# Altium footprint library TerminalBlock_4Ucon.PcbLib: 28 footprints (part 1 of 2)
Each footprint in its own frame and in the unit in brackets; x right, y up, seen from the top. Pads: shape width x height; smd on the part's side, far side on the other; paste and mask are expansions set on the pad; w line width, h text height; cw(c..) or ccw(c..) is an arc to the next point about the centre after c.
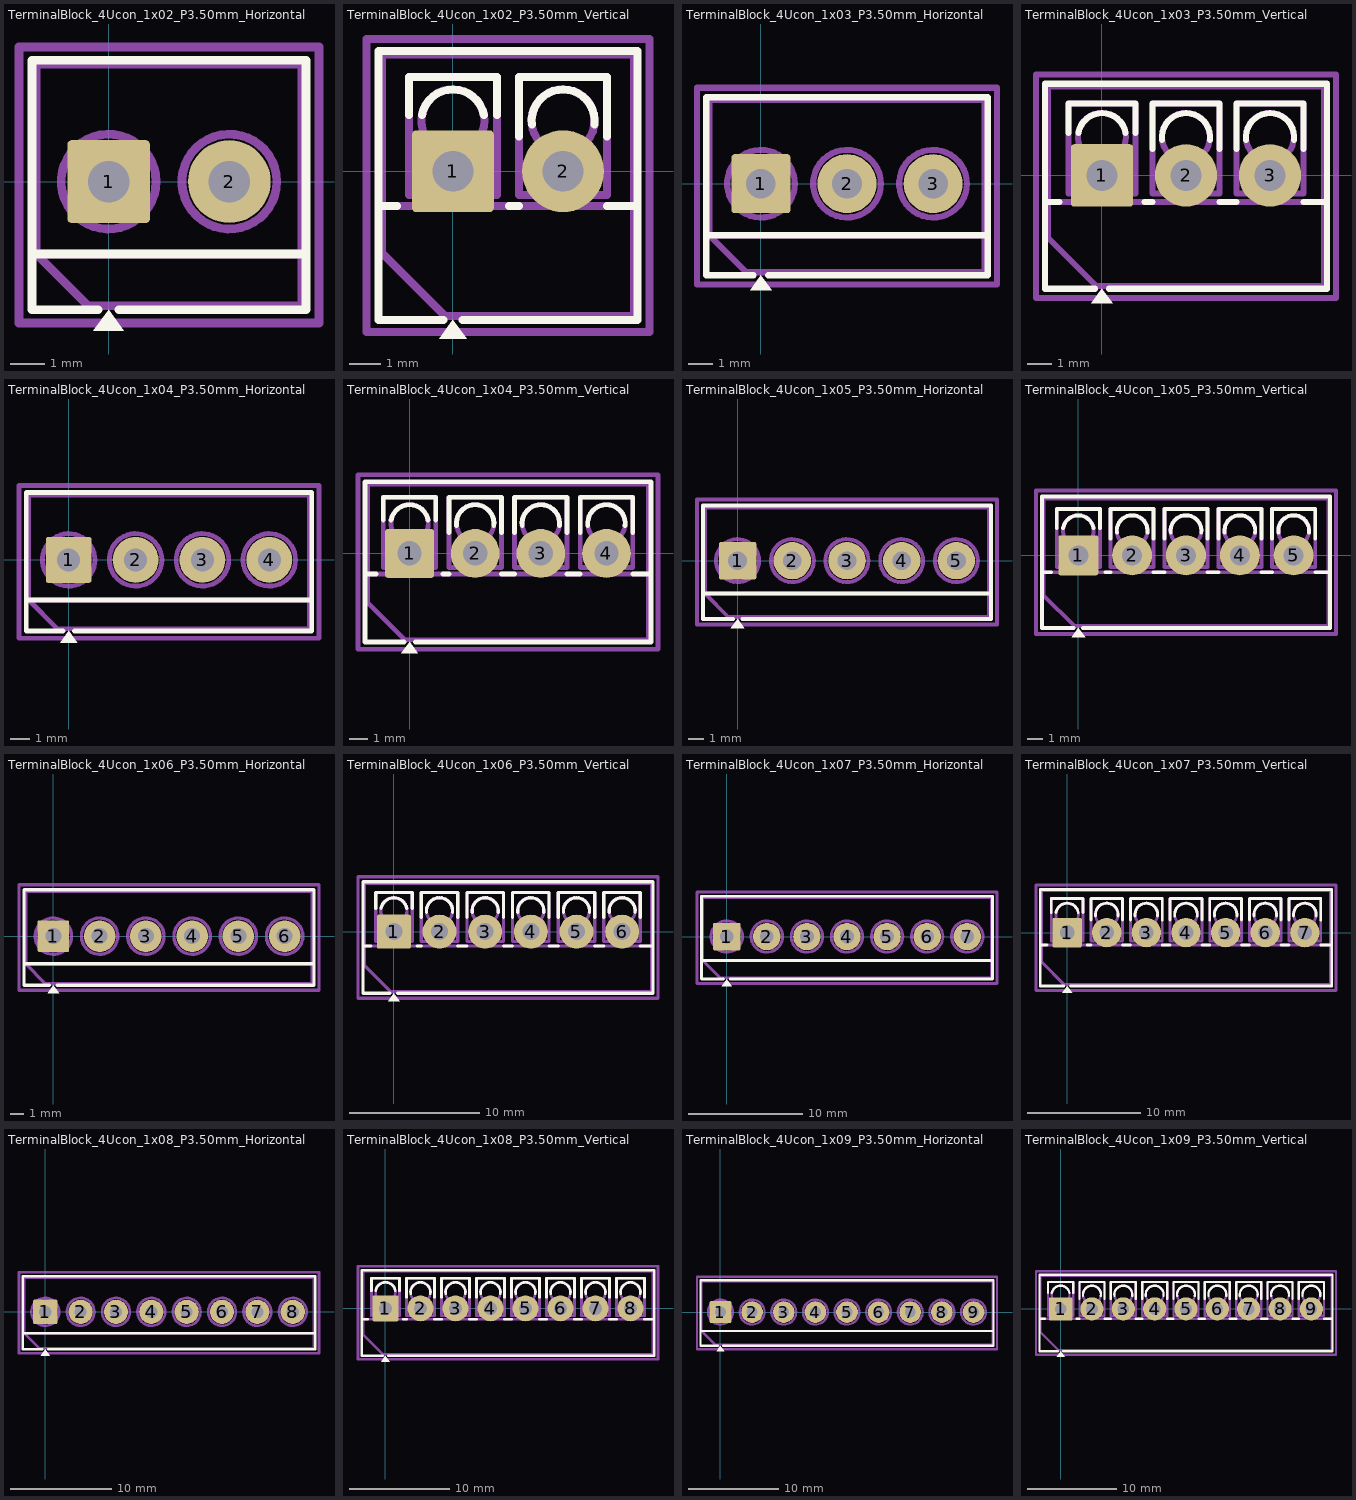
[diagram p0: the footprints below, top view; thin cyan lines are the x and y axes]

## TerminalBlock_4Ucon_1x02_P3.50mm_Horizontal [mm]
pads (2):
  rrect10% 2.4x2.4 hole 1.2: 1(0,0)
  round 2.4 hole 1.2: 2(3.5,0)
F.SilkS:
  region: 0.44,-4.33 -0.44,-4.33 0,-3.72
  lines w0.254: -2.22,-2.1 5.72,-2.1 ; -0.3,-3.72 -2.22,-3.72 -2.22,3.52 5.72,3.52 5.72,-3.72 0.3,-3.72
F.Fab:
  circle w0.254: c0,0 r1.375
  circle w0.254: c3.5,0 r1.375
  lines w0.254: -1.031,0 1.031,0 ; 0,-1.031 0,1.031 ; 2.469,0 4.531,0 ; 3.5,-1.031 3.5,1.031 ; 5.6,-2.1 -2.1,-2.1 ; -2.1,-2.1 -2.1,3.4 5.6,3.4 5.6,-3.6 -0.6,-3.6 -2.1,-2.1
  text "'.Designator'" at -2.297,-3.74 h1
F.CrtYd:
  lines w0.254: -2.6,-4.1 -2.6,3.9 6.1,3.9 6.1,-4.1 -2.6,-4.1

## TerminalBlock_4Ucon_1x02_P3.50mm_Vertical [mm]
pads (2):
  rrect10% 2.6x2.6 hole 1.3: 1(0,0)
  round 2.6 hole 1.3: 2(3.5,0)
F.SilkS:
  region: 0.44,-5.33 -0.44,-5.33 0,-4.72
  lines w0.254: -2.37,-1.1 -1.78,-1.1 ; -1.4,1.78 -1.4,3 1.4,3 1.4,1.78 ; -0.984,1.78 cw(c0,1.6) 0.984,1.78 ; -0.3,-4.72 -2.37,-4.72 -2.37,3.82 5.87,3.82 5.87,-4.72 0.3,-4.72 ; 1.78,-1.1 2.101,-1.1 ; 2.1,1.099 2.1,3 4.9,3 4.9,1.099 ; 2.508,1.478 cw(c3.5,1.6) 4.492,1.478 ; 4.899,-1.1 5.87,-1.1
F.Fab:
  circle w0.254: c0,1.6 r1
  circle w0.254: c3.5,1.6 r1
  lines w0.254: -2.25,-1.1 5.75,-1.1 ; -2.25,-2.6 -2.25,3.7 5.75,3.7 5.75,-4.6 -0.25,-4.6 -2.25,-2.6 ; -1.4,-0.75 -1.4,3 1.4,3 1.4,-0.75 -1.4,-0.75 ; 2.1,-0.75 2.1,3 4.9,3 4.9,-0.75 2.1,-0.75
  text "'.Designator'" at -2.297,-4.29 h1
F.CrtYd:
  lines w0.254: -2.75,-5.11 -2.75,4.2 6.25,4.2 6.25,-5.11 -2.75,-5.11

## TerminalBlock_4Ucon_1x03_P3.50mm_Horizontal [mm]
pads (3):
  rrect10% 2.4x2.4 hole 1.2: 1(0,0)
  round 2.4 hole 1.2: 2(3.5,0) 3(7,0)
F.SilkS:
  region: 0.44,-4.33 -0.44,-4.33 0,-3.72
  lines w0.254: -2.22,-2.1 9.22,-2.1 ; -0.3,-3.72 -2.22,-3.72 -2.22,3.52 9.22,3.52 9.22,-3.72 0.3,-3.72
F.Fab:
  circle w0.254: c0,0 r1.375
  circle w0.254: c3.5,0 r1.375
  circle w0.254: c7,0 r1.375
  lines w0.254: -1.031,0 1.031,0 ; 0,-1.031 0,1.031 ; 2.469,0 4.531,0 ; 3.5,-1.031 3.5,1.031 ; 5.969,0 8.031,0 ; 7,-1.031 7,1.031 ; 9.1,-2.1 -2.1,-2.1 ; -2.1,-2.1 -2.1,3.4 9.1,3.4 9.1,-3.6 -0.6,-3.6 -2.1,-2.1
  text "'.Designator'" at -0.547,-3.74 h1
F.CrtYd:
  lines w0.254: -2.6,-4.1 -2.6,3.9 9.6,3.9 9.6,-4.1 -2.6,-4.1

## TerminalBlock_4Ucon_1x03_P3.50mm_Vertical [mm]
pads (3):
  rrect10% 2.6x2.6 hole 1.3: 1(0,0)
  round 2.6 hole 1.3: 2(3.5,0) 3(7,0)
F.SilkS:
  region: 0.44,-5.33 -0.44,-5.33 0,-4.72
  lines w0.254: -2.37,-1.1 -1.78,-1.1 ; -1.4,1.78 -1.4,3 1.4,3 1.4,1.78 ; -0.984,1.78 cw(c0,1.6) 0.984,1.78 ; -0.3,-4.72 -2.37,-4.72 -2.37,3.82 9.37,3.82 9.37,-4.72 0.3,-4.72 ; 1.78,-1.1 2.101,-1.1 ; 2.1,1.099 2.1,3 4.9,3 4.9,1.099 ; 2.508,1.478 cw(c3.5,1.6) 4.492,1.478 ; 4.899,-1.1 5.601,-1.1 ; 5.6,1.099 5.6,3 8.4,3 8.4,1.099 ; 6.008,1.478 cw(c7,1.6) 7.992,1.478 ; 8.399,-1.1 9.37,-1.1
F.Fab:
  circle w0.254: c0,1.6 r1
  circle w0.254: c3.5,1.6 r1
  circle w0.254: c7,1.6 r1
  lines w0.254: -2.25,-1.1 9.25,-1.1 ; -2.25,-2.6 -2.25,3.7 9.25,3.7 9.25,-4.6 -0.25,-4.6 -2.25,-2.6 ; -1.4,-0.75 -1.4,3 1.4,3 1.4,-0.75 -1.4,-0.75 ; 2.1,-0.75 2.1,3 4.9,3 4.9,-0.75 2.1,-0.75 ; 5.6,-0.75 5.6,3 8.4,3 8.4,-0.75 5.6,-0.75
  text "'.Designator'" at -0.547,-4.29 h1
F.CrtYd:
  lines w0.254: -2.75,-5.11 -2.75,4.2 9.75,4.2 9.75,-5.11 -2.75,-5.11

## TerminalBlock_4Ucon_1x04_P3.50mm_Horizontal [mm]
pads (4):
  rrect10% 2.4x2.4 hole 1.2: 1(0,0)
  round 2.4 hole 1.2: 2(3.5,0) 3(7,0) 4(10.5,0)
F.SilkS:
  region: 0.44,-4.33 -0.44,-4.33 0,-3.72
  lines w0.254: -2.22,-2.1 12.72,-2.1 ; -0.3,-3.72 -2.22,-3.72 -2.22,3.52 12.72,3.52 12.72,-3.72 0.3,-3.72
F.Fab:
  circle w0.254: c0,0 r1.375
  circle w0.254: c3.5,0 r1.375
  circle w0.254: c7,0 r1.375
  circle w0.254: c10.5,0 r1.375
  lines w0.254: -1.031,0 1.031,0 ; 0,-1.031 0,1.031 ; 2.469,0 4.531,0 ; 3.5,-1.031 3.5,1.031 ; 5.969,0 8.031,0 ; 7,-1.031 7,1.031 ; 9.469,0 11.531,0 ; 10.5,-1.031 10.5,1.031 ; 12.6,-2.1 -2.1,-2.1 ; -2.1,-2.1 -2.1,3.4 12.6,3.4 12.6,-3.6 -0.6,-3.6 -2.1,-2.1
  text "'.Designator'" at 1.203,-3.74 h1
F.CrtYd:
  lines w0.254: -2.6,-4.1 -2.6,3.9 13.1,3.9 13.1,-4.1 -2.6,-4.1

## TerminalBlock_4Ucon_1x04_P3.50mm_Vertical [mm]
pads (4):
  rrect10% 2.6x2.6 hole 1.3: 1(0,0)
  round 2.6 hole 1.3: 2(3.5,0) 3(7,0) 4(10.5,0)
F.SilkS:
  region: 0.44,-5.33 -0.44,-5.33 0,-4.72
  lines w0.254: -2.37,-1.1 -1.78,-1.1 ; -1.4,1.78 -1.4,3 1.4,3 1.4,1.78 ; -0.984,1.78 cw(c0,1.6) 0.984,1.78 ; -0.3,-4.72 -2.37,-4.72 -2.37,3.82 12.87,3.82 12.87,-4.72 0.3,-4.72 ; 1.78,-1.1 2.101,-1.1 ; 2.1,1.099 2.1,3 4.9,3 4.9,1.099 ; 2.508,1.478 cw(c3.5,1.6) 4.492,1.478 ; 4.899,-1.1 5.601,-1.1 ; 5.6,1.099 5.6,3 8.4,3 8.4,1.099 ; 6.008,1.478 cw(c7,1.6) 7.992,1.478 ; 8.399,-1.1 9.101,-1.1 ; 9.1,1.099 9.1,3 11.9,3 11.9,1.099 ; 9.508,1.478 cw(c10.5,1.6) 11.492,1.478 ; 11.899,-1.1 12.87,-1.1
F.Fab:
  circle w0.254: c0,1.6 r1
  circle w0.254: c3.5,1.6 r1
  circle w0.254: c7,1.6 r1
  circle w0.254: c10.5,1.6 r1
  lines w0.254: -2.25,-1.1 12.75,-1.1 ; -2.25,-2.6 -2.25,3.7 12.75,3.7 12.75,-4.6 -0.25,-4.6 -2.25,-2.6 ; -1.4,-0.75 -1.4,3 1.4,3 1.4,-0.75 -1.4,-0.75 ; 2.1,-0.75 2.1,3 4.9,3 4.9,-0.75 2.1,-0.75 ; 5.6,-0.75 5.6,3 8.4,3 8.4,-0.75 5.6,-0.75 ; 9.1,-0.75 9.1,3 11.9,3 11.9,-0.75 9.1,-0.75
  text "'.Designator'" at 1.203,-4.29 h1
F.CrtYd:
  lines w0.254: -2.75,-5.11 -2.75,4.2 13.25,4.2 13.25,-5.11 -2.75,-5.11

## TerminalBlock_4Ucon_1x05_P3.50mm_Horizontal [mm]
pads (5):
  rrect10% 2.4x2.4 hole 1.2: 1(0,0)
  round 2.4 hole 1.2: 2(3.5,0) 3(7,0) 4(10.5,0) 5(14,0)
F.SilkS:
  region: 0.44,-4.33 -0.44,-4.33 0,-3.72
  lines w0.254: -2.22,-2.1 16.22,-2.1 ; -0.3,-3.72 -2.22,-3.72 -2.22,3.52 16.22,3.52 16.22,-3.72 0.3,-3.72
F.Fab:
  circle w0.254: c0,0 r1.375
  circle w0.254: c3.5,0 r1.375
  circle w0.254: c7,0 r1.375
  circle w0.254: c10.5,0 r1.375
  circle w0.254: c14,0 r1.375
  lines w0.254: -1.031,0 1.031,0 ; 0,-1.031 0,1.031 ; 2.469,0 4.531,0 ; 3.5,-1.031 3.5,1.031 ; 5.969,0 8.031,0 ; 7,-1.031 7,1.031 ; 9.469,0 11.531,0 ; 10.5,-1.031 10.5,1.031 ; 12.969,0 15.031,0 ; 14,-1.031 14,1.031 ; 16.1,-2.1 -2.1,-2.1 ; -2.1,-2.1 -2.1,3.4 16.1,3.4 16.1,-3.6 -0.6,-3.6 -2.1,-2.1
  text "'.Designator'" at 2.953,-3.74 h1
F.CrtYd:
  lines w0.254: -2.6,-4.1 -2.6,3.9 16.6,3.9 16.6,-4.1 -2.6,-4.1

## TerminalBlock_4Ucon_1x05_P3.50mm_Vertical [mm]
pads (5):
  rrect10% 2.6x2.6 hole 1.3: 1(0,0)
  round 2.6 hole 1.3: 2(3.5,0) 3(7,0) 4(10.5,0) 5(14,0)
F.SilkS:
  region: 0.44,-5.33 -0.44,-5.33 0,-4.72
  lines w0.254: -2.37,-1.1 -1.78,-1.1 ; -1.4,1.78 -1.4,3 1.4,3 1.4,1.78 ; -0.984,1.78 cw(c0,1.6) 0.984,1.78 ; -0.3,-4.72 -2.37,-4.72 -2.37,3.82 16.37,3.82 16.37,-4.72 0.3,-4.72 ; 1.78,-1.1 2.101,-1.1 ; 2.1,1.099 2.1,3 4.9,3 4.9,1.099 ; 2.508,1.478 cw(c3.5,1.6) 4.492,1.478 ; 4.899,-1.1 5.601,-1.1 ; 5.6,1.099 5.6,3 8.4,3 8.4,1.099 ; 6.008,1.478 cw(c7,1.6) 7.992,1.478 ; 8.399,-1.1 9.101,-1.1 ; 9.1,1.099 9.1,3 11.9,3 11.9,1.099 ; 9.508,1.478 cw(c10.5,1.6) 11.492,1.478 ; 11.899,-1.1 12.601,-1.1 ; 12.6,1.099 12.6,3 15.4,3 15.4,1.099 ; 13.008,1.478 cw(c14,1.6) 14.992,1.478 ; 15.399,-1.1 16.37,-1.1
F.Fab:
  circle w0.254: c0,1.6 r1
  circle w0.254: c3.5,1.6 r1
  circle w0.254: c7,1.6 r1
  circle w0.254: c10.5,1.6 r1
  circle w0.254: c14,1.6 r1
  lines w0.254: -2.25,-1.1 16.25,-1.1 ; -2.25,-2.6 -2.25,3.7 16.25,3.7 16.25,-4.6 -0.25,-4.6 -2.25,-2.6 ; -1.4,-0.75 -1.4,3 1.4,3 1.4,-0.75 -1.4,-0.75 ; 2.1,-0.75 2.1,3 4.9,3 4.9,-0.75 2.1,-0.75 ; 5.6,-0.75 5.6,3 8.4,3 8.4,-0.75 5.6,-0.75 ; 9.1,-0.75 9.1,3 11.9,3 11.9,-0.75 9.1,-0.75 ; 12.6,-0.75 12.6,3 15.4,3 15.4,-0.75 12.6,-0.75
  text "'.Designator'" at 2.953,-4.29 h1
F.CrtYd:
  lines w0.254: -2.75,-5.11 -2.75,4.2 16.75,4.2 16.75,-5.11 -2.75,-5.11

## TerminalBlock_4Ucon_1x06_P3.50mm_Horizontal [mm]
pads (6):
  rrect10% 2.4x2.4 hole 1.2: 1(0,0)
  round 2.4 hole 1.2: 2(3.5,0) 3(7,0) 4(10.5,0) 5(14,0) 6(17.5,0)
F.SilkS:
  region: 0.44,-4.33 -0.44,-4.33 0,-3.72
  lines w0.254: -2.22,-2.1 19.72,-2.1 ; -0.3,-3.72 -2.22,-3.72 -2.22,3.52 19.72,3.52 19.72,-3.72 0.3,-3.72
F.Fab:
  circle w0.254: c0,0 r1.375
  circle w0.254: c3.5,0 r1.375
  circle w0.254: c7,0 r1.375
  circle w0.254: c10.5,0 r1.375
  circle w0.254: c14,0 r1.375
  circle w0.254: c17.5,0 r1.375
  lines w0.254: -1.031,0 1.031,0 ; 0,-1.031 0,1.031 ; 2.469,0 4.531,0 ; 3.5,-1.031 3.5,1.031 ; 5.969,0 8.031,0 ; 7,-1.031 7,1.031 ; 9.469,0 11.531,0 ; 10.5,-1.031 10.5,1.031 ; 12.969,0 15.031,0 ; 14,-1.031 14,1.031 ; 16.469,0 18.531,0 ; 17.5,-1.031 17.5,1.031 ; 19.6,-2.1 -2.1,-2.1 ; -2.1,-2.1 -2.1,3.4 19.6,3.4 19.6,-3.6 -0.6,-3.6 -2.1,-2.1
  text "'.Designator'" at 4.703,-3.74 h1
F.CrtYd:
  lines w0.254: -2.6,-4.1 -2.6,3.9 20.1,3.9 20.1,-4.1 -2.6,-4.1

## TerminalBlock_4Ucon_1x06_P3.50mm_Vertical [mm]
pads (6):
  rrect10% 2.6x2.6 hole 1.3: 1(0,0)
  round 2.6 hole 1.3: 2(3.5,0) 3(7,0) 4(10.5,0) 5(14,0) 6(17.5,0)
F.SilkS:
  region: 0.44,-5.33 -0.44,-5.33 0,-4.72
  lines w0.254: -2.37,-1.1 -1.78,-1.1 ; -1.4,1.78 -1.4,3 1.4,3 1.4,1.78 ; -0.984,1.78 cw(c0,1.6) 0.984,1.78 ; -0.3,-4.72 -2.37,-4.72 -2.37,3.82 19.87,3.82 19.87,-4.72 0.3,-4.72 ; 1.78,-1.1 2.101,-1.1 ; 2.1,1.099 2.1,3 4.9,3 4.9,1.099 ; 2.508,1.478 cw(c3.5,1.6) 4.492,1.478 ; 4.899,-1.1 5.601,-1.1 ; 5.6,1.099 5.6,3 8.4,3 8.4,1.099 ; 6.008,1.478 cw(c7,1.6) 7.992,1.478 ; 8.399,-1.1 9.101,-1.1 ; 9.1,1.099 9.1,3 11.9,3 11.9,1.099 ; 9.508,1.478 cw(c10.5,1.6) 11.492,1.478 ; 11.899,-1.1 12.601,-1.1 ; 12.6,1.099 12.6,3 15.4,3 15.4,1.099 ; 13.008,1.478 cw(c14,1.6) 14.992,1.478 ; 15.399,-1.1 16.101,-1.1 ; 16.1,1.099 16.1,3 18.9,3 18.9,1.099 ; 16.508,1.478 cw(c17.5,1.6) 18.492,1.478 ; 18.899,-1.1 19.87,-1.1
F.Fab:
  circle w0.254: c0,1.6 r1
  circle w0.254: c3.5,1.6 r1
  circle w0.254: c7,1.6 r1
  circle w0.254: c10.5,1.6 r1
  circle w0.254: c14,1.6 r1
  circle w0.254: c17.5,1.6 r1
  lines w0.254: -2.25,-1.1 19.75,-1.1 ; -2.25,-2.6 -2.25,3.7 19.75,3.7 19.75,-4.6 -0.25,-4.6 -2.25,-2.6 ; -1.4,-0.75 -1.4,3 1.4,3 1.4,-0.75 -1.4,-0.75 ; 2.1,-0.75 2.1,3 4.9,3 4.9,-0.75 2.1,-0.75 ; 5.6,-0.75 5.6,3 8.4,3 8.4,-0.75 5.6,-0.75 ; 9.1,-0.75 9.1,3 11.9,3 11.9,-0.75 9.1,-0.75 ; 12.6,-0.75 12.6,3 15.4,3 15.4,-0.75 12.6,-0.75 ; 16.101,-0.75 16.101,3 18.9,3 18.9,-0.75 16.101,-0.75
  text "'.Designator'" at 4.703,-4.29 h1
F.CrtYd:
  lines w0.254: -2.75,-5.11 -2.75,4.2 20.25,4.2 20.25,-5.11 -2.75,-5.11

## TerminalBlock_4Ucon_1x07_P3.50mm_Horizontal [mm]
pads (7):
  rrect10% 2.4x2.4 hole 1.2: 1(0,0)
  round 2.4 hole 1.2: 2(3.5,0) 3(7,0) 4(10.5,0) 5(14,0) 6(17.5,0) 7(21,0)
F.SilkS:
  region: 0.44,-4.33 -0.44,-4.33 0,-3.72
  lines w0.254: -2.22,-2.1 23.22,-2.1 ; -0.3,-3.72 -2.22,-3.72 -2.22,3.52 23.22,3.52 23.22,-3.72 0.3,-3.72
F.Fab:
  circle w0.254: c0,0 r1.375
  circle w0.254: c3.5,0 r1.375
  circle w0.254: c7,0 r1.375
  circle w0.254: c10.5,0 r1.375
  circle w0.254: c14,0 r1.375
  circle w0.254: c17.5,0 r1.375
  circle w0.254: c21,0 r1.375
  lines w0.254: -1.031,0 1.031,0 ; 0,-1.031 0,1.031 ; 2.469,0 4.531,0 ; 3.5,-1.031 3.5,1.031 ; 5.969,0 8.031,0 ; 7,-1.031 7,1.031 ; 9.469,0 11.531,0 ; 10.5,-1.031 10.5,1.031 ; 12.969,0 15.031,0 ; 14,-1.031 14,1.031 ; 16.469,0 18.531,0 ; 17.5,-1.031 17.5,1.031 ; 19.969,0 22.031,0 ; 21,-1.031 21,1.031 ; 23.1,-2.1 -2.1,-2.1 ; -2.1,-2.1 -2.1,3.4 23.1,3.4 23.1,-3.6 -0.6,-3.6 -2.1,-2.1
  text "'.Designator'" at 6.453,-3.74 h1
F.CrtYd:
  lines w0.254: -2.6,-4.1 -2.6,3.9 23.6,3.9 23.6,-4.1 -2.6,-4.1

## TerminalBlock_4Ucon_1x07_P3.50mm_Vertical [mm]
pads (7):
  rrect10% 2.6x2.6 hole 1.3: 1(0,0)
  round 2.6 hole 1.3: 2(3.5,0) 3(7,0) 4(10.5,0) 5(14,0) 6(17.5,0) 7(21,0)
F.SilkS:
  region: 0.44,-5.33 -0.44,-5.33 0,-4.72
  lines w0.254: -2.37,-1.1 -1.78,-1.1 ; -1.4,1.78 -1.4,3 1.4,3 1.4,1.78 ; -0.984,1.78 cw(c0,1.6) 0.984,1.78 ; -0.3,-4.72 -2.37,-4.72 -2.37,3.82 23.37,3.82 23.37,-4.72 0.3,-4.72 ; 1.78,-1.1 2.101,-1.1 ; 2.1,1.099 2.1,3 4.9,3 4.9,1.099 ; 2.508,1.478 cw(c3.5,1.6) 4.492,1.478 ; 4.899,-1.1 5.601,-1.1 ; 5.6,1.099 5.6,3 8.4,3 8.4,1.099 ; 6.008,1.478 cw(c7,1.6) 7.992,1.478 ; 8.399,-1.1 9.101,-1.1 ; 9.1,1.099 9.1,3 11.9,3 11.9,1.099 ; 9.508,1.478 cw(c10.5,1.6) 11.492,1.478 ; 11.899,-1.1 12.601,-1.1 ; 12.6,1.099 12.6,3 15.4,3 15.4,1.099 ; 13.008,1.478 cw(c14,1.6) 14.992,1.478 ; 15.399,-1.1 16.101,-1.1 ; 16.1,1.099 16.1,3 18.9,3 18.9,1.099 ; 16.508,1.478 cw(c17.5,1.6) 18.492,1.478 ; 18.899,-1.1 19.601,-1.1 ; 19.6,1.099 19.6,3 22.4,3 22.4,1.099 ; 20.008,1.478 cw(c21,1.6) 21.992,1.478 ; 22.399,-1.1 23.37,-1.1
F.Fab:
  circle w0.254: c0,1.6 r1
  circle w0.254: c3.5,1.6 r1
  circle w0.254: c7,1.6 r1
  circle w0.254: c10.5,1.6 r1
  circle w0.254: c14,1.6 r1
  circle w0.254: c17.5,1.6 r1
  circle w0.254: c21,1.6 r1
  lines w0.254: -2.25,-1.1 23.25,-1.1 ; -2.25,-2.6 -2.25,3.7 23.25,3.7 23.25,-4.6 -0.25,-4.6 -2.25,-2.6 ; -1.4,-0.75 -1.4,3 1.4,3 1.4,-0.75 -1.4,-0.75 ; 2.1,-0.75 2.1,3 4.9,3 4.9,-0.75 2.1,-0.75 ; 5.6,-0.75 5.6,3 8.4,3 8.4,-0.75 5.6,-0.75 ; 9.1,-0.75 9.1,3 11.9,3 11.9,-0.75 9.1,-0.75 ; 12.6,-0.75 12.6,3 15.4,3 15.4,-0.75 12.6,-0.75 ; 16.101,-0.75 16.101,3 18.9,3 18.9,-0.75 16.101,-0.75 ; 19.6,-0.75 19.6,3 22.4,3 22.4,-0.75 19.6,-0.75
  text "'.Designator'" at 6.453,-4.29 h1
F.CrtYd:
  lines w0.254: -2.75,-5.11 -2.75,4.2 23.75,4.2 23.75,-5.11 -2.75,-5.11

## TerminalBlock_4Ucon_1x08_P3.50mm_Horizontal [mm]
pads (8):
  rrect10% 2.4x2.4 hole 1.2: 1(0,0)
  round 2.4 hole 1.2: 2(3.5,0) 3(7,0) 4(10.5,0) 5(14,0) 6(17.5,0) 7(21,0) 8(24.5,0)
F.SilkS:
  region: 0.44,-4.33 -0.44,-4.33 0,-3.72
  lines w0.254: -2.22,-2.1 26.72,-2.1 ; -0.3,-3.72 -2.22,-3.72 -2.22,3.52 26.72,3.52 26.72,-3.72 0.3,-3.72
F.Fab:
  circle w0.254: c0,0 r1.375
  circle w0.254: c3.5,0 r1.375
  circle w0.254: c7,0 r1.375
  circle w0.254: c10.5,0 r1.375
  circle w0.254: c14,0 r1.375
  circle w0.254: c17.5,0 r1.375
  circle w0.254: c21,0 r1.375
  circle w0.254: c24.5,0 r1.375
  lines w0.254: -1.031,0 1.031,0 ; 0,-1.031 0,1.031 ; 2.469,0 4.531,0 ; 3.5,-1.031 3.5,1.031 ; 5.969,0 8.031,0 ; 7,-1.031 7,1.031 ; 9.469,0 11.531,0 ; 10.5,-1.031 10.5,1.031 ; 12.969,0 15.031,0 ; 14,-1.031 14,1.031 ; 16.469,0 18.531,0 ; 17.5,-1.031 17.5,1.031 ; 19.969,0 22.031,0 ; 21,-1.031 21,1.031 ; 23.469,0 25.531,0 ; 24.5,-1.031 24.5,1.031 ; 26.6,-2.1 -2.1,-2.1 ; -2.1,-2.1 -2.1,3.4 26.6,3.4 26.6,-3.6 -0.6,-3.6 -2.1,-2.1
  text "'.Designator'" at 8.203,-3.74 h1
F.CrtYd:
  lines w0.254: -2.6,-4.1 -2.6,3.9 27.1,3.9 27.1,-4.1 -2.6,-4.1

## TerminalBlock_4Ucon_1x08_P3.50mm_Vertical [mm]
pads (8):
  rrect10% 2.6x2.6 hole 1.3: 1(0,0)
  round 2.6 hole 1.3: 2(3.5,0) 3(7,0) 4(10.5,0) 5(14,0) 6(17.5,0) 7(21,0) 8(24.5,0)
F.SilkS:
  region: 0.44,-5.33 -0.44,-5.33 0,-4.72
  lines w0.254: -2.37,-1.1 -1.78,-1.1 ; -1.4,1.78 -1.4,3 1.4,3 1.4,1.78 ; -0.984,1.78 cw(c0,1.6) 0.984,1.78 ; -0.3,-4.72 -2.37,-4.72 -2.37,3.82 26.87,3.82 26.87,-4.72 0.3,-4.72 ; 1.78,-1.1 2.101,-1.1 ; 2.1,1.099 2.1,3 4.9,3 4.9,1.099 ; 2.508,1.478 cw(c3.5,1.6) 4.492,1.478 ; 4.899,-1.1 5.601,-1.1 ; 5.6,1.099 5.6,3 8.4,3 8.4,1.099 ; 6.008,1.478 cw(c7,1.6) 7.992,1.478 ; 8.399,-1.1 9.101,-1.1 ; 9.1,1.099 9.1,3 11.9,3 11.9,1.099 ; 9.508,1.478 cw(c10.5,1.6) 11.492,1.478 ; 11.899,-1.1 12.601,-1.1 ; 12.6,1.099 12.6,3 15.4,3 15.4,1.099 ; 13.008,1.478 cw(c14,1.6) 14.992,1.478 ; 15.399,-1.1 16.101,-1.1 ; 16.1,1.099 16.1,3 18.9,3 18.9,1.099 ; 16.508,1.478 cw(c17.5,1.6) 18.492,1.478 ; 18.899,-1.1 19.601,-1.1 ; 19.6,1.099 19.6,3 22.4,3 22.4,1.099 ; 20.008,1.478 cw(c21,1.6) 21.992,1.478 ; 22.399,-1.1 23.101,-1.1 ; 23.1,1.099 23.1,3 25.9,3 25.9,1.099 ; 23.508,1.478 cw(c24.5,1.6) 25.492,1.478 ; 25.899,-1.1 26.87,-1.1
F.Fab:
  circle w0.254: c0,1.6 r1
  circle w0.254: c3.5,1.6 r1
  circle w0.254: c7,1.6 r1
  circle w0.254: c10.5,1.6 r1
  circle w0.254: c14,1.6 r1
  circle w0.254: c17.5,1.6 r1
  circle w0.254: c21,1.6 r1
  circle w0.254: c24.5,1.6 r1
  lines w0.254: -2.25,-1.1 26.75,-1.1 ; -2.25,-2.6 -2.25,3.7 26.75,3.7 26.75,-4.6 -0.25,-4.6 -2.25,-2.6 ; -1.4,-0.75 -1.4,3 1.4,3 1.4,-0.75 -1.4,-0.75 ; 2.1,-0.75 2.1,3 4.9,3 4.9,-0.75 2.1,-0.75 ; 5.6,-0.75 5.6,3 8.4,3 8.4,-0.75 5.6,-0.75 ; 9.1,-0.75 9.1,3 11.9,3 11.9,-0.75 9.1,-0.75 ; 12.6,-0.75 12.6,3 15.4,3 15.4,-0.75 12.6,-0.75 ; 16.101,-0.75 16.101,3 18.9,3 18.9,-0.75 16.101,-0.75 ; 19.6,-0.75 19.6,3 22.4,3 22.4,-0.75 19.6,-0.75 ; 23.1,-0.75 23.1,3 25.9,3 25.9,-0.75 23.1,-0.75
  text "'.Designator'" at 8.203,-4.29 h1
F.CrtYd:
  lines w0.254: -2.75,-5.11 -2.75,4.2 27.25,4.2 27.25,-5.11 -2.75,-5.11

## TerminalBlock_4Ucon_1x09_P3.50mm_Horizontal [mm]
pads (9):
  rrect10% 2.4x2.4 hole 1.2: 1(0,0)
  round 2.4 hole 1.2: 2(3.5,0) 3(7,0) 4(10.5,0) 5(14,0) 6(17.5,0) 7(21,0) 8(24.5,0) 9(28,0)
F.SilkS:
  region: 0.44,-4.33 -0.44,-4.33 0,-3.72
  lines w0.254: -2.22,-2.1 30.22,-2.1 ; -0.3,-3.72 -2.22,-3.72 -2.22,3.52 30.22,3.52 30.22,-3.72 0.3,-3.72
F.Fab:
  circle w0.254: c0,0 r1.375
  circle w0.254: c3.5,0 r1.375
  circle w0.254: c7,0 r1.375
  circle w0.254: c10.5,0 r1.375
  circle w0.254: c14,0 r1.375
  circle w0.254: c17.5,0 r1.375
  circle w0.254: c21,0 r1.375
  circle w0.254: c24.5,0 r1.375
  circle w0.254: c28,0 r1.375
  lines w0.254: -1.031,0 1.031,0 ; 0,-1.031 0,1.031 ; 2.469,0 4.531,0 ; 3.5,-1.031 3.5,1.031 ; 5.969,0 8.031,0 ; 7,-1.031 7,1.031 ; 9.469,0 11.531,0 ; 10.5,-1.031 10.5,1.031 ; 12.969,0 15.031,0 ; 14,-1.031 14,1.031 ; 16.469,0 18.531,0 ; 17.5,-1.031 17.5,1.031 ; 19.969,0 22.031,0 ; 21,-1.031 21,1.031 ; 23.469,0 25.531,0 ; 24.5,-1.031 24.5,1.031 ; 26.969,0 29.031,0 ; 28,-1.031 28,1.031 ; 30.1,-2.1 -2.1,-2.1 ; -2.1,-2.1 -2.1,3.4 30.1,3.4 30.1,-3.6 -0.6,-3.6 -2.1,-2.1
  text "'.Designator'" at 9.953,-3.74 h1
F.CrtYd:
  lines w0.254: -2.6,-4.1 -2.6,3.9 30.6,3.9 30.6,-4.1 -2.6,-4.1

## TerminalBlock_4Ucon_1x09_P3.50mm_Vertical [mm]
pads (9):
  rrect10% 2.6x2.6 hole 1.3: 1(0,0)
  round 2.6 hole 1.3: 2(3.5,0) 3(7,0) 4(10.5,0) 5(14,0) 6(17.5,0) 7(21,0) 8(24.5,0) 9(28,0)
F.SilkS:
  region: 0.44,-5.33 -0.44,-5.33 0,-4.72
  lines w0.254: -2.37,-1.1 -1.78,-1.1 ; -1.4,1.78 -1.4,3 1.4,3 1.4,1.78 ; -0.984,1.78 cw(c0,1.6) 0.984,1.78 ; -0.3,-4.72 -2.37,-4.72 -2.37,3.82 30.37,3.82 30.37,-4.72 0.3,-4.72 ; 1.78,-1.1 2.101,-1.1 ; 2.1,1.099 2.1,3 4.9,3 4.9,1.099 ; 2.508,1.478 cw(c3.5,1.6) 4.492,1.478 ; 4.899,-1.1 5.601,-1.1 ; 5.6,1.099 5.6,3 8.4,3 8.4,1.099 ; 6.008,1.478 cw(c7,1.6) 7.992,1.478 ; 8.399,-1.1 9.101,-1.1 ; 9.1,1.099 9.1,3 11.9,3 11.9,1.099 ; 9.508,1.478 cw(c10.5,1.6) 11.492,1.478 ; 11.899,-1.1 12.601,-1.1 ; 12.6,1.099 12.6,3 15.4,3 15.4,1.099 ; 13.008,1.478 cw(c14,1.6) 14.992,1.478 ; 15.399,-1.1 16.101,-1.1 ; 16.1,1.099 16.1,3 18.9,3 18.9,1.099 ; 16.508,1.478 cw(c17.5,1.6) 18.492,1.478 ; 18.899,-1.1 19.601,-1.1 ; 19.6,1.099 19.6,3 22.4,3 22.4,1.099 ; 20.008,1.478 cw(c21,1.6) 21.992,1.478 ; 22.399,-1.1 23.101,-1.1 ; 23.1,1.099 23.1,3 25.9,3 25.9,1.099 ; 23.508,1.478 cw(c24.5,1.6) 25.492,1.478 ; 25.899,-1.1 26.601,-1.1 ; 26.6,1.099 26.6,3 29.4,3 29.4,1.099 ; 27.008,1.478 cw(c28,1.6) 28.992,1.478 ; 29.399,-1.1 30.37,-1.1
F.Fab:
  circle w0.254: c0,1.6 r1
  circle w0.254: c3.5,1.6 r1
  circle w0.254: c7,1.6 r1
  circle w0.254: c10.5,1.6 r1
  circle w0.254: c14,1.6 r1
  circle w0.254: c17.5,1.6 r1
  circle w0.254: c21,1.6 r1
  circle w0.254: c24.5,1.6 r1
  circle w0.254: c28,1.6 r1
  lines w0.254: -2.25,-1.1 30.25,-1.1 ; -2.25,-2.6 -2.25,3.7 30.25,3.7 30.25,-4.6 -0.25,-4.6 -2.25,-2.6 ; -1.4,-0.75 -1.4,3 1.4,3 1.4,-0.75 -1.4,-0.75 ; 2.1,-0.75 2.1,3 4.9,3 4.9,-0.75 2.1,-0.75 ; 5.6,-0.75 5.6,3 8.4,3 8.4,-0.75 5.6,-0.75 ; 9.1,-0.75 9.1,3 11.9,3 11.9,-0.75 9.1,-0.75 ; 12.6,-0.75 12.6,3 15.4,3 15.4,-0.75 12.6,-0.75 ; 16.101,-0.75 16.101,3 18.9,3 18.9,-0.75 16.101,-0.75 ; 19.6,-0.75 19.6,3 22.4,3 22.4,-0.75 19.6,-0.75 ; 23.1,-0.75 23.1,3 25.9,3 25.9,-0.75 23.1,-0.75 ; 26.6,-0.75 26.6,3 29.4,3 29.4,-0.75 26.6,-0.75
  text "'.Designator'" at 9.953,-4.29 h1
F.CrtYd:
  lines w0.254: -2.75,-5.11 -2.75,4.2 30.75,4.2 30.75,-5.11 -2.75,-5.11